# Altium integrated library RC1206JR-07220RL.IntLib: 1 symbol
Pins are listed as number, name and electrical type; pins without a type are passive.

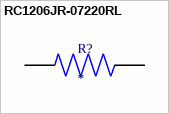
[diagram p0: symbol RC1206JR-07220RL]

## RC1206JR-07220RL
designator R?
220 Ohms Â±5% 0.25W, 1/4W Chip Resistor 1206 (3216 Metric) Moisture Resistant Thick Film; MF: Yageo; MP: RC1206JR-07220RL; SnapEDA_Link: https://www.snapeda.com/parts/RC1206JR-07220RL/Yageo/view-part/?ref=snap; Package: 3116 Yageo; Value: *; Check_prices: https://www.snapeda.com/parts/RC1206JR-07220RL/Yageo/view-part/?ref=eda
footprint RESC3116X65N
pins: 1, 2